# EAGLE library part FPC_8_0.5MM (library RTK Facet)
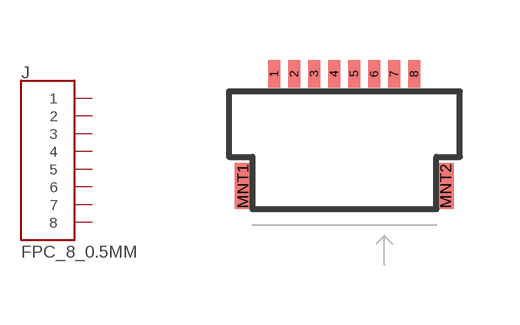
[diagram p0: symbol with the pads of FPC_8_FLIP_DOUBLESIDED; footprint FPC_8_FLIP_DOUBLESIDED]

Designator prefix J

## FPC_8_0.5MM  [FPC_8_FLIP_DOUBLESIDED]
1  1
2  2
3  3
4  4
5  5
6  6
7  7
8  8

## Footprint FPC_8_FLIP_DOUBLESIDED (pad centres in mm)
Designed to work with ATOM FPC050*-14* front flip series as well as Molex 5034800800 back flip series.
smd 0.3 x 0.7: 1 -1.75,1.675; 2 -1.25,1.675; 3 -0.75,1.675; 4 -0.25,1.675; 5 0.25,1.675; 6 0.75,1.675; 7 1.25,1.675; 8 1.75,1.675
smd 0.4 x 1.15: MNT1 -2.535,-1.135; MNT2 2.535,-1.135